# Altium integrated library DRV8825_STEPPER_MOTOR_DRIVER_CARRIER.IntLib: 1 symbol
Pins are listed as number, name and electrical type; pins without a type are passive.

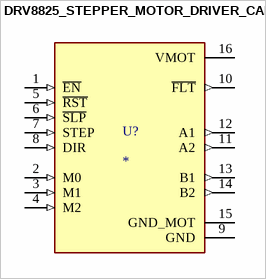
[diagram p0: symbol DRV8825_STEPPER_MOTOR_DRIVER_CARRIER]

## DRV8825_STEPPER_MOTOR_DRIVER_CARRIER
designator U?
Stepper motor controler; IC: DRV8825; 1.5A; Uin mot: 8.2Ã·45V; MP: DRV8825_STEPPER_MOTOR_DRIVER_CARRIER; Availability: Unavailable; Value: *; Price: None; Package: None
footprint IC_DRV8825_STEPPER_MOTOR_DRIVER_CARRIER
pins: 1 ~{EN} (in), 2 M0 (in), 3 M1 (in), 4 M2 (in), 5 ~{RST} (in), 6 ~{SLP} (in), 7 STEP (in), 8 DIR (in), 9 GND (power), 10 ~{FLT} (out), 11 A2 (out), 12 A1 (out), 13 B1 (out), 14 B2 (out), 15 GND_MOT (power), 16 VMOT (power)